# EAGLE library part MICRO32 (library lamloei-micro32-v2)
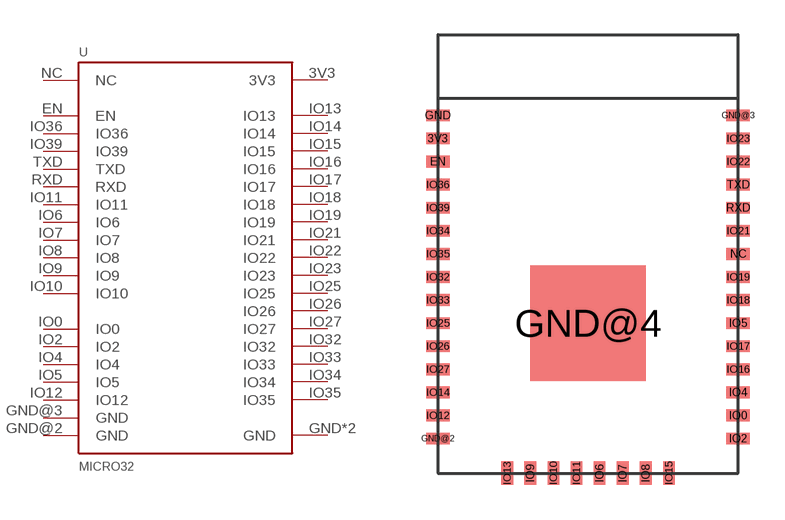
[diagram p0: symbol with the pads of MICRO32; footprint MICRO32]

Designator prefix -

## MICRO32  [MICRO32]
3V3  3V3  pwr
EN  EN  in
GND  GND  nc
GND@2  GND  nc
GND@3  GND  pwr
GND@4  GND  nc
IO0  IO0
IO2  IO2
IO4  IO4
IO5  IO5
IO6  IO6
IO7  IO7
IO8  IO8
IO9  IO9
IO10  IO10
IO11  IO11
IO12  IO12
IO13  IO13
IO14  IO14
IO15  IO15
IO16  IO16  pwr
IO17  IO17  pwr
IO18  IO18
IO19  IO19
IO21  IO21
IO22  IO22
IO23  IO23
IO25  IO25
IO26  IO26
IO27  IO27
IO32  IO32
IO33  IO33
IO34  IO34
IO35  IO35
IO36  IO36
IO39  IO39
NC  NC
RXD  RXD
TXD  TXD

## Footprint MICRO32 (pad centres in mm)
smd 1.016 x 0.508: 3V3 0,14.5; EN 0,13.5; GND 0,15.5; GND@2 0,1.5; GND@3 13,15.5; IO0 13,2.5; IO2 13,1.5; IO4 13,3.5; IO5 13,6.5; IO12 0,2.5; IO14 0,3.5; IO16 13,4.5; IO17 13,5.5; IO18 13,7.5; IO19 13,8.5; IO21 13,10.5; IO22 13,13.5; IO23 13,14.5; IO25 0,6.5; IO26 0,5.5; IO27 0,4.5; IO32 0,8.5; IO33 0,7.5; IO34 0,10.5; IO35 0,9.5; IO36 0,12.5; IO39 0,11.5; NC 13,9.5; RXD 13,11.5; TXD 13,12.5
smd 5 x 5: GND@4 6.5,6.5
smd 0.508 x 1.016: IO6 7,0; IO7 8,0; IO8 9,0; IO9 4,0; IO10 5,0; IO11 6,0; IO13 3,0; IO15 10,0